# EAGLE library part ST7540 (library st-microelectronics)
The ST7540 is a Half Duplex synchronous/asynchronous FSK Modem designed for power line communication network applications. It operates from a single supply voltage and integrates a line driver and two linear regulators for 5V and 3.3V. The device operation is controlled by means of an internal register, programmable through the synchronous serial interface. Additional functions as watchdog, clock output, output voltage and current control, preamble detection, time-out and band in use are included. Realized in Multipower BCD5 technology that allows to integrate DMOS, Bipolar and CMOS structures in the same chip.
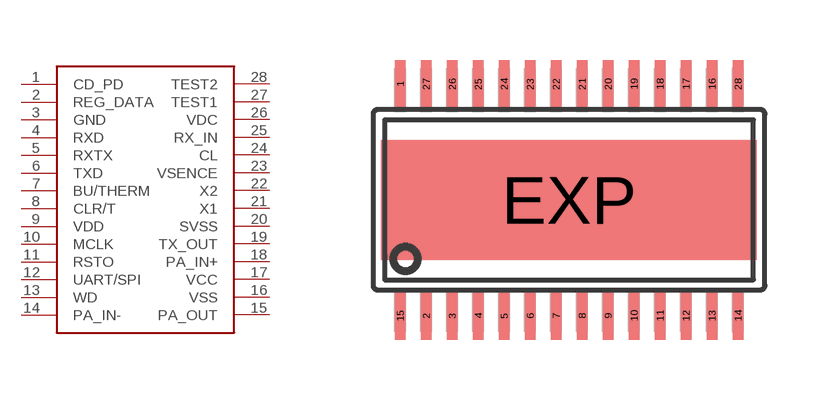
[diagram p59: symbol with the pads of HTSSOP28EXP; footprint HTSSOP28EXP]

Designator prefix IC

## ST7540  [HTSSOP28EXP]
1  CD_PD
2  REG_DATA
3  GND
4  RXD
5  RXTX
6  TXD
7  BU/THERM
8  CLR/T
9  VDD
10  MCLK
11  RSTO
12  UART/SPI
13  WD
14  PA_IN-
15  PA_OUT
16  VSS
17  VCC
18  PA_IN+
19  TX_OUT
20  SVSS
21  X1
22  X2
23  VSENCE
24  CL
25  RX_IN
26  VDC
27  TEST1
28  TEST2

## Footprint HTSSOP28EXP (pad centres in mm)
HTSSOP28 Exposed Pad
smd 0.27 x 1.2: 1 -4.225,2.9; 2 -3.575,-2.9; 3 -2.925,-2.9; 4 -2.275,-2.9; 5 -1.625,-2.9; 6 -0.975,-2.9; 7 -0.325,-2.9; 8 0.325,-2.9; 9 0.975,-2.9; 10 1.625,-2.9; 11 2.275,-2.9; 12 2.925,-2.9; 13 3.575,-2.9; 14 4.225,-2.9; 15 -4.225,-2.9; 16 3.575,2.9; 17 2.925,2.9; 18 2.275,2.9; 19 1.625,2.9; 20 0.975,2.9; 21 0.325,2.9; 22 -0.325,2.9; 23 -0.975,2.9; 24 -1.625,2.9; 25 -2.275,2.9; 26 -2.925,2.9; 27 -3.575,2.9; 28 4.225,2.9
smd 9.4 x 3: EXP 0,0